# Altium integrated library AZ1117EH-3.3TRG1.IntLib: 1 symbol
Pins are listed as number, name and electrical type; pins without a type are passive.

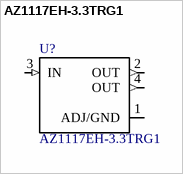
[diagram p0: symbol AZ1117EH-3.3TRG1]

## AZ1117EH-3.3TRG1
designator U?
/ Ldo.Vreg Pos 3, 3v 1a Sot223 /; MF: Diodes Inc.; Package: SOT-223 Diodes Inc.; Digi-Key_Purchase_URL: https://www.digikey.ch/product-detail/en/diodes-incorporated/AZ1117EH-3.3TRG1/AZ1117EH-3.3TRG1DICT-ND/5001336?utm_source=snapeda&utm_medium=aggregator&utm_campaign=symbol; MP: AZ1117EH-3.3TRG1; SnapEDA_Link: https://www.snapeda.com/parts/AZ1117EH-3.3TRG1/Diodes%20Inc./view-part/?ref=snap; Digi-Key_Part_Number: AZ1117EH-3.3TRG1DICT-ND; Value: *
footprint *SOT230P700X180-4N
pins: 1 ADJ/GND (power), 2 OUT (out), 3 IN (in), 4 OUT (out)